# Altium footprint library SamacSys.PcbLib: 33 footprints (part 3 of 3)
Each footprint in its own frame and in the unit in brackets; x right, y up, seen from the top. Pads: shape width x height; smd on the part's side, far side on the other; paste and mask are expansions set on the pad; w line width, h text height; cw(c..) or ccw(c..) is an arc to the next point about the centre after c.
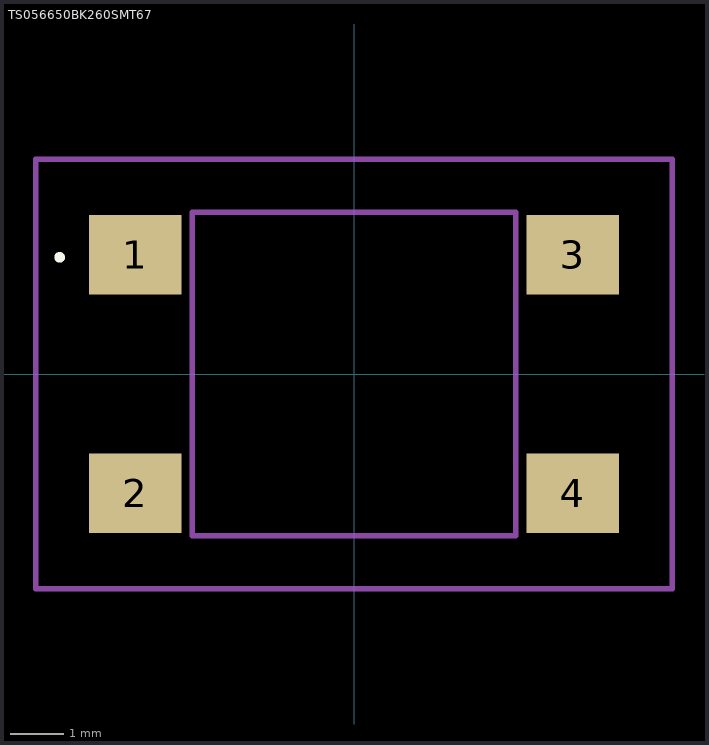
[diagram p2: the footprint, top view; thin cyan lines are the x and y axes]

## TS056650BK260SMT67 [mm]
pads (4):
  rect 1.75x1.5 smd: 1(-4.125,2.25) 2(-4.125,-2.25) 3(4.125,2.25) 4(4.125,-2.25)
Top Overlay:
  lines w0.1: -5.6,2.2 ccw(c-5.55,2.2) -5.5,2.2 ccw(c-5.55,2.2) -5.6,2.2
Mechanical 13:
  lines w0.1: -3.05,-3.05 3.05,-3.05 3.05,3.05 -3.05,3.05 -3.05,-3.05
Mechanical 15:
  lines w0.1: -6,-4.05 6,-4.05 6,4.05 -6,4.05 -6,-4.05